# EAGLE library part MAX9032 (library patrick_custom)
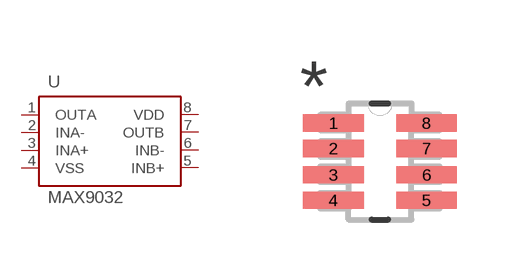
[diagram p12: symbol with the pads of SOT23-8; footprint SOT23-8]

Designator prefix U

## MAX9032  [SOT23-8]
1  OUTA
2  INA-
3  INA+
4  VSS
5  INB+
6  INB-
7  OUTB
8  VDD

## Footprint SOT23-8 (pad centres in mm)
smd 1.524 x 0.432: 1 -1.176,0.958; 2 -1.176,0.323; 3 -1.176,-0.337; 4 -1.176,-0.972; 5 1.161,-0.972; 6 1.161,-0.337; 7 1.161,0.323; 8 1.161,0.958